# Altium schematic symbol library CD74HC4067M96.SchLib: 1 symbol
Pins are listed as number, name and electrical type; pins without a type are passive.

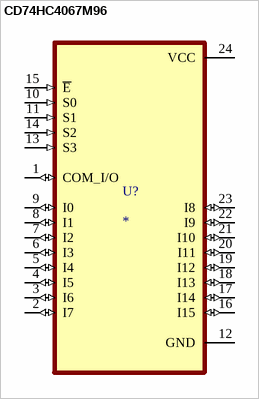
[diagram p0: symbol CD74HC4067M96]

## CD74HC4067M96
designator U?
MF: {'manufacturer': u'Texas Instruments'}; MP: CD74HC4067M96; Value: *; Package: None; Price: None; Availability: Unavailable
footprint SOIC127P1030X265-24N
pins: 1 COM_I/O (io), 2 I7 (io), 3 I6 (io), 4 I5 (io), 5 I4 (io), 6 I3 (io), 7 I2 (io), 8 I1 (io), 9 I0 (io), 10 S0 (in), 11 S1 (in), 12 GND (power), 13 S3 (in), 14 S2 (in), 15 ~{E} (in), 16 I15 (io), 17 I14 (io), 18 I13 (io), 19 I12 (io), 20 I11 (io), 21 I10 (io), 22 I9 (io), 23 I8 (io), 24 VCC (power)